# Altium footprint library PCB - LEADED - SOT - TI SOT-223-6 DCQ.PCBLIB: 1 footprints
Each footprint in its own frame and in the unit in brackets; x right, y up, seen from the top. Pads: shape width x height; smd on the part's side, far side on the other; paste and mask are expansions set on the pad; w line width, h text height; cw(c..) or ccw(c..) is an arc to the next point about the centre after c.
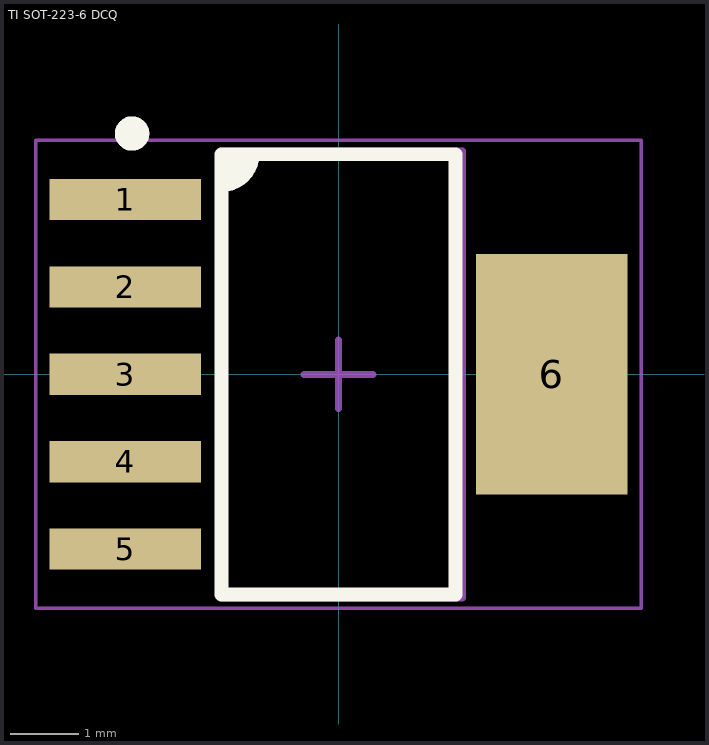
[diagram p0: the footprint, top view; thin cyan lines are the x and y axes]

## TI SOT-223-6 DCQ [mm] "SOT223, 6-Leads, Body 6.50x7.00mm (avg), Pitch 1.27mm, IPC Medium Density"
height 1.8
pads (6):
  rect 2.2x0.6 smd: 1(-3.1,2.54) 2(-3.1,1.27) 3(-3.1,0) 4(-3.1,-1.27) 5(-3.1,-2.54)
  rect 2.2x3.5 smd: 6(3.1,0)
Top Overlay:
  circle w0.25: c-3,3.5 r0.125
  region: -1.55,3.225 -1.2,3.2 -1.25,3.15 -1.346,2.893 -1.55,2.85 -1.75,2.85 -1.71,3.185
  lines w0.2: -1.7,2.75 ccw(c-1.7,3.2) -1.25,3.2 ; -1.7,-3.2 -1.7,3.2 1.7,3.2 1.7,-3.2 -1.7,-3.2
Mechanical 13:
  lines w0.1: -1.7,-3.25 -1.7,3.25 1.8,3.25 1.8,-3.25 -1.7,-3.25
Mechanical 15:
  lines w0.05: -4.4,-3.4 -4.4,3.4 4.4,3.4 4.4,-3.4 -4.4,-3.4
Mechanical 2 (Mech9):
  lines w0.1: -0.5,0 0.5,0 ; 0,-0.5 0,0.5
3D body "DCQ0006A.stp": height 1.66, standoff 0, extent -3.554,-3.25 3.554,3.25